# EAGLE library part PL611-01-N12MC-R (library Sparky)
Programmable Clock Capable of Providing Three LVCMOS Clock Outputs up to 200MHz
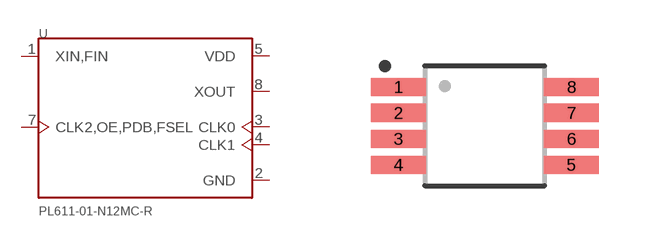
[diagram p24: symbol with the pads of SOP65P490X110-8N; footprint SOP65P490X110-8N]

Designator prefix U

## PL611-01-N12MC-R (AVAILABILITY: Unavailable; DESCRIPTION: Programmable Clock Capable of Providing Three LVCMOS Clock Outputs up to 200MHz; MF: Microchip; MP: PL611-01-N12MC-R; PACKAGE: MSOP-8 Microchip; PRICE: None)  [SOP65P490X110-8N]
1  XIN,FIN  in
2  GND  pwr
3  CLK0  out
4  CLK1  out
5  VDD  pwr
7  CLK2,OE,PDB,FSEL
8  XOUT  out

## Footprint SOP65P490X110-8N (pad centres in mm)
smd 1.38 x 0.45: 1 -2.165,0.975; 2 -2.165,0.325; 3 -2.165,-0.325; 4 -2.165,-0.975; 5 2.165,-0.975; 6 2.165,-0.325; 7 2.165,0.325; 8 2.165,0.975